# Altium footprint library SSOP.PcbLib: 2 footprints
Each footprint in its own frame and in the unit in brackets; x right, y up, seen from the top. Pads: shape width x height; smd on the part's side, far side on the other; paste and mask are expansions set on the pad; w line width, h text height; cw(c..) or ccw(c..) is an arc to the next point about the centre after c.
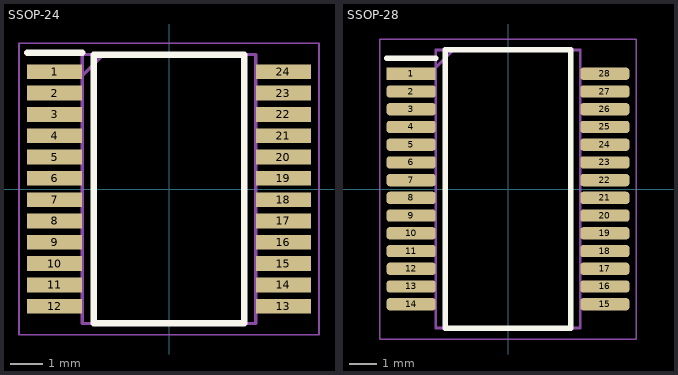
[diagram p0: the footprints below, top view; thin cyan lines are the x and y axes]

## SSOP-24 [mm]
pads (24):
  rect 1.675x0.45 smd: 1(-3.488,3.575) 2(-3.488,2.925) 3(-3.488,2.275) 4(-3.488,1.625) 5(-3.488,0.975) 6(-3.488,0.325) 7(-3.488,-0.325) 8(-3.488,-0.975) 9(-3.488,-1.625) 10(-3.488,-2.275) 11(-3.488,-2.925) 12(-3.488,-3.575) 13(3.488,-3.575) 14(3.488,-2.925) 15(3.488,-2.275) 16(3.488,-1.625) 17(3.488,-0.975) 18(3.488,-0.325) 19(3.488,0.325) 20(3.488,0.975) 21(3.488,1.625) 22(3.488,2.275) 23(3.488,2.925) 24(3.488,3.575)
Top Overlay:
  lines w0.2: -4.325,4.15 -2.65,4.15 ; -2.3,-4.1 -2.3,4.1 2.3,4.1 2.3,-4.1 -2.3,-4.1
BOAS 13:
  lines w0.1: -2.65,3.45 -2,4.1 ; -2.65,-4.1 -2.65,4.1 2.65,4.1 2.65,-4.1 -2.65,-4.1
Bottom Component Outline:
  lines w0.05: -4.575,-4.45 -4.575,4.45 4.575,4.45 4.575,-4.45 -4.575,-4.45
3D body "PCA8575DB,118.stp": height 2, standoff 0, extent -3.875,-4.1 3.875,4.1

## SSOP-28 [mm]
pads (28):
  rect 1.8x0.45 smd: 1(-3.55,4.225)
  rrect50% 1.8x0.45 smd: 2(-3.55,3.575) 3(-3.55,2.925) 4(-3.55,2.275) 5(-3.55,1.625) 6(-3.55,0.975) 7(-3.55,0.325) 8(-3.55,-0.325) 9(-3.55,-0.975) 10(-3.55,-1.625) 11(-3.55,-2.275) 12(-3.55,-2.925) 13(-3.55,-3.575) 14(-3.55,-4.225) 15(3.55,-4.225) 16(3.55,-3.575) 17(3.55,-2.925) 18(3.55,-2.275) 19(3.55,-1.625) 20(3.55,-0.975) 21(3.55,-0.325) 22(3.55,0.325) 23(3.55,0.975) 24(3.55,1.625) 25(3.55,2.275) 26(3.55,2.925) 27(3.55,3.575) 28(3.55,4.225)
Top Overlay:
  lines w0.2: -4.45,4.8 -2.65,4.8 ; -2.3,-5.1 2.3,-5.1 2.3,5.1 -2.3,5.1 -2.3,-5.1
Top Assembly:
  lines w0.1: -2.65,4.45 -2,5.1 ; -2.65,-5.1 2.65,-5.1 2.65,5.1 -2.65,5.1 -2.65,-5.1
Top Component Outline:
  lines w0.05: -4.7,-5.5 4.7,-5.5 4.7,5.5 -4.7,5.5 -4.7,-5.5
3D body "MCP23016-I_SS.stp": height 2, standoff 0, extent -3.9,-5.1 3.9,5.1